# Altium schematic symbol library My_Schlib_6_28.SchLib: 171 symbols
Pins are listed as number, name and electrical type; pins without a type are passive.

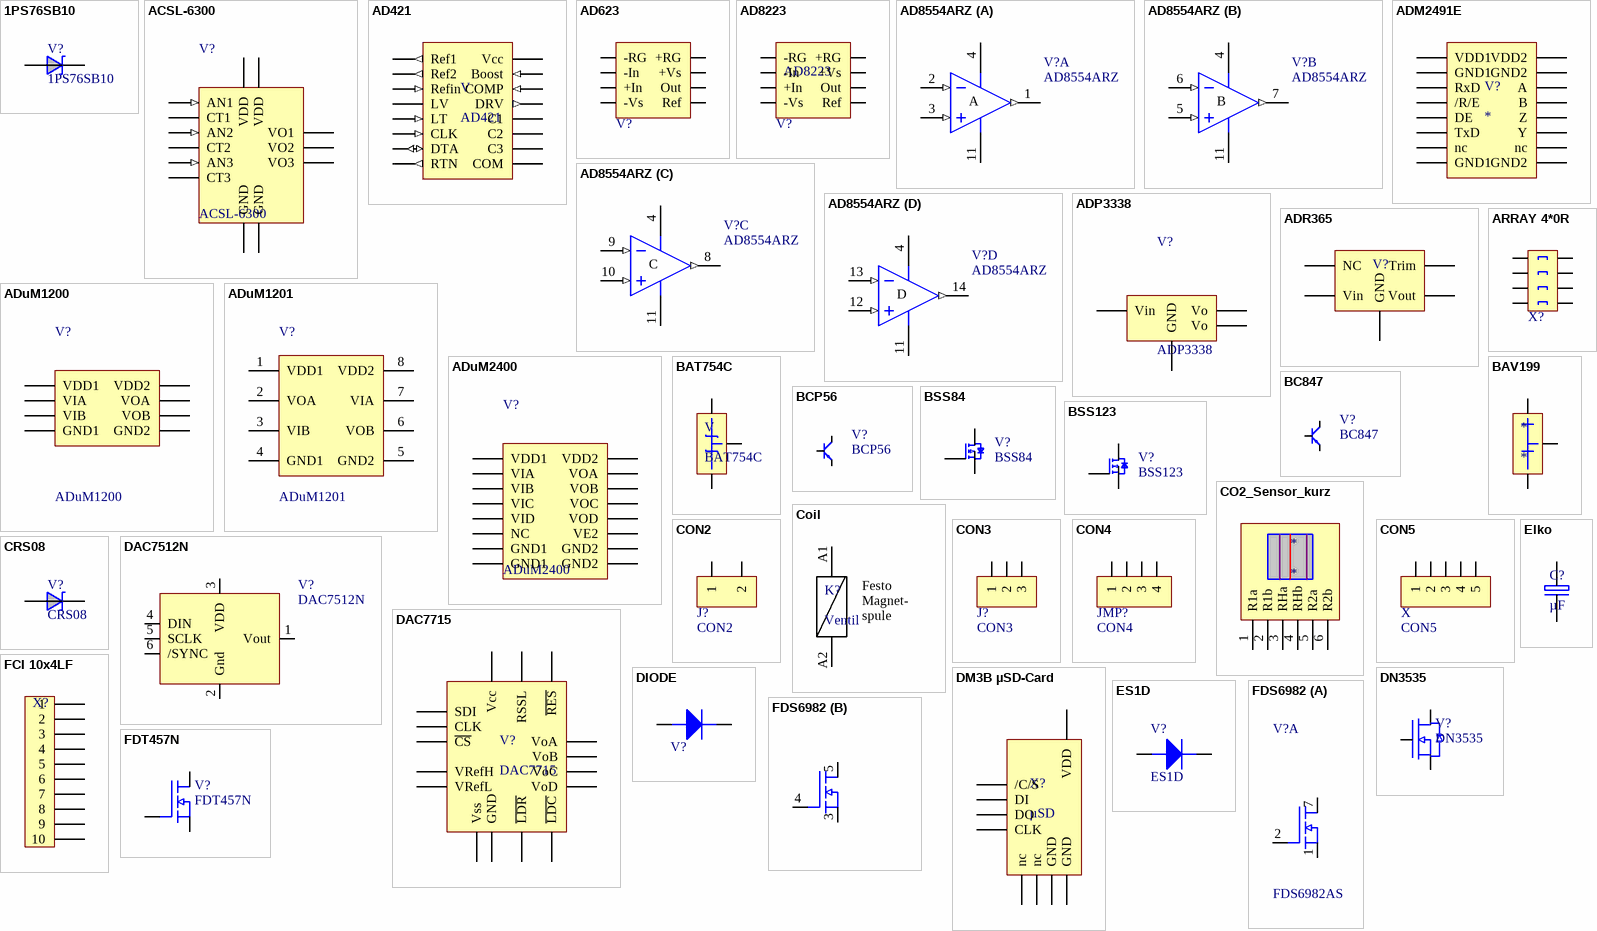
[diagram p0: symbols 1PS76SB10 to FDT457N]

## 1PS76SB10
designator V?
footprint SOD323
pins: 1, 2

## ACSL-6300
designator V?
footprint SOIC16n
pins: 1 AN1 (in), 2 CT1, 3 AN2 (in), 4 CT2, 5 AN3 (in), 6 CT3, 9 GND, 10 VDD (power), 12 VO3 (oc), 13 VO2 (oc), 14 VO1 (oc), 15 VDD (power), 16 GND

## AD421
designator V
footprint SOIC16w
pins: 1 Ref1 (out), 2 Ref2 (out), 3 Refin (in), 4 LV, 5 LT (in), 6 CLK (in), 7 DTA (io), 8 RTN (out), 9 COM, 10 C3, 11 C2, 12 C1, 13 DRV (out), 14 COMP (in), 15 Boost (in), 16 Vcc

## AD623
designator V?  (value not drawn)
footprint SO8
footprint MSOP8
pins: 1 -RG, 2 -In, 3 +In, 4 -Vs, 5 Ref, 6 Out, 7 +Vs, 8 +RG

## AD8223
designator V?
footprint SOIC127P600-8CM (SOIC, 8-Leads, Body 4.9x3.9mm, Pitch 1.27mm, IPC Low Density)
pins: 1 -RG, 2 -In, 3 +In, 4 -Vs, 5 Ref, 6 Out, 7 +Vs, 8 +RG

## AD8554ARZ
designator V?
footprint SOIC127P600-14AM (SOIC, 14-Leads, Body 8.6x3.9mm, Pitch 1.27mm, IPC Low Density)
part A pins: 1 OUT (out), 2 IN- (in), 3 IN+ (in), 4 V+ (power), 11 V- (power)
part B pins: 4 V+ (power), 5 IN+ (in), 6 IN- (in), 7 OUT (out), 11 V- (power)
part C pins: 4 V+ (power), 8 OUT (out), 9 IN- (in), 10 IN+ (in), 11 V- (power)
part D pins: 4 V+ (power), 11 V- (power), 12 IN+ (in), 13 IN- (in), 14 OUT (out)
part A text: A
part B text: B
part C text: C
part D text: D

## ADM2491E
designator V?
footprint SOIC127P1030-16AM (SOIC, 16-Leads, Body 10.3x7.5mm, Pitch 1.27mm, IPC Low Density)
pins: 1 VDD1, 2 GND1, 3 RxD, 4 /R/E, 5 DE, 6 TxD, 7 nc, 8 GND1, 9 GND2, 10 nc, 11 Y, 12 Z, 13 B, 14 A, 15 GND2, 16 VDD2

## ADP3338
designator V?
footprint SOT223
pins: 1 GND, 2 Vo, 3 Vin, 4 Vo

## ADR365
designator V?  (value not drawn)
footprint SOT23-5
pins: 1 NC, 2 GND, 3 Vin, 4 Vout, 5 Trim

## ADuM1200
designator V?
footprint SOIC127P600-8CM (SOIC, 8-Leads, Body 4.9x3.9mm, Pitch 1.27mm, IPC Low Density)
pins: 1 VDD1, 2 VIA, 3 VIB, 4 GND1, 5 GND2, 6 VOB (power), 7 VOA (power), 8 VDD2

## ADuM1201
designator V?
footprint SO8
pins: 1 VDD1, 2 VOA, 3 VIB, 4 GND1, 5 GND2, 6 VOB (power), 7 VIA (power), 8 VDD2

## ADuM2400
designator V?
footprint SOIC127P1030-16AM (SOIC, 16-Leads, Body 10.3x7.5mm, Pitch 1.27mm, IPC Low Density)
pins: 1 VDD1, 2 GND1, 3 VIA, 4 VIB, 5 VIC, 6 VID, 7 NC, 8 GND1, 9 GND2, 10 VE2, 11 VOD, 12 VOC, 13 VOB (power), 14 VOA (power), 15 GND2, 16 VDD2

## ARRAY 4*0R
designator X?, comment 4xR0  (value not drawn)
footprint Array 4x0R
pins: 1, 2, 3, 4, 5, 6, 7, 8

## BAT754C
designator V
footprint SOT23
pins: 1, 2, 3

## BAV199
designator *
footprint SOT23
pins: 1, 2, 3

## BC847
designator V?
footprint SOT23
pins: 1 B, 2 E, 3 C

## BCP56
designator V?
footprint SOT223
pins: 1 B, 2,4 C, 3 E

## BSS84
designator V?
footprint SOT23
pins: 1 G, 2 S, 3 D

## BSS123
designator V?
footprint SOT23
pins: 1 G, 2 S, 3 D

## CO2_Sensor_kurz
designator *
footprint Bond_CO2_kurz (CO2sensor 2,56*2,6mm)
pins: 1 R1a, 2 R1b, 3 RHa, 4 RHb, 5 R2a, 6 R2b

## Coil
designator K?, comment Ventil
pins: A1, A2
text: Festo / Magnet- / spule

## CON2
designator J?
footprint JMP2
pins: 1, 2

## CON3
designator J?
footprint JMP3
pins: 1, 2, 3

## CON4
designator JMP?
footprint JMP4
footprint CON4 1_27
footprint Samtec TMS-104-01-X-S
footprint ACH-4
pins: 1, 2, 3, 4

## CON5
designator X
footprint JMP5
footprint JST SM05B-SHLS-TF
pins: 1, 2, 3, 4, 5

## CRS08
designator V?
footprint CRS08
pins: 1 A, 2 K

## DAC7512N
designator V?
footprint SOT23-6
pins: 1 Vout, 2 Gnd (power), 3 VDD (power), 4 DIN, 5 SCLK, 6 /SYNC

## DAC7715
designator V?
footprint SOIC127P1030-16M (SOIC, 16-Leads, Body 10.3x7.5mm, Pitch 1.27mm, IPC Low Density)
pins: 1 Vcc, 2 VoD, 3 VoC, 4 VRefL, 5 VRefH, 6 VoB, 7 VoA, 8 Vss, 9 GND, 10 SDI, 11 CLK, 12 ~{CS}, 13 ~{LDC}, 14 ~{LDR}, 15 ~{RES}, 16 RSSL

## DIODE
designator V?
footprint SMA; pin to pad 1>2 2>1
footprint MELFD 5022
footprint SMB; pin to pad 1>2 2>1
footprint SOD123
footprint SMC
footprint SOD110; pin to pad 2>A
footprint 0603 Diode
pins: 1, 2

## DM3B µSD-Card
designator X?, comment µSD
footprint DM3B
pins: 1 nc, 2 /C/S, 3 DI, 4 VDD, 5 CLK, 6 GND, 7 DO, 8 nc, 9 GND

## DN3535
designator V?
footprint SOT89
pins: 1 G, 2 D, 3 S

## Elko
designator C?, comment µF
footprint SMA
footprint SMB
footprint SMC
pins: 1, 2

## ES1D
designator V?
footprint SMA
pins: 1, 2

## FCI 10x4LF
designator X?  (value not drawn)
footprint FCI 10C4LF
footprint FCI 10T4LF Edge
pins: 1, 2, 3, 4, 5, 6, 7, 8, 9, 10

## FDS6982
designator V?, comment FDS6982AS
footprint SO8 - Heatsink
part A pins: 1 S2, 2 G2, 7 D2
part B pins: 3 S1, 4 G1, 5 D1

## FDT457N
designator V?
footprint SOT223
pins: 1 G, 2 D, 3 S

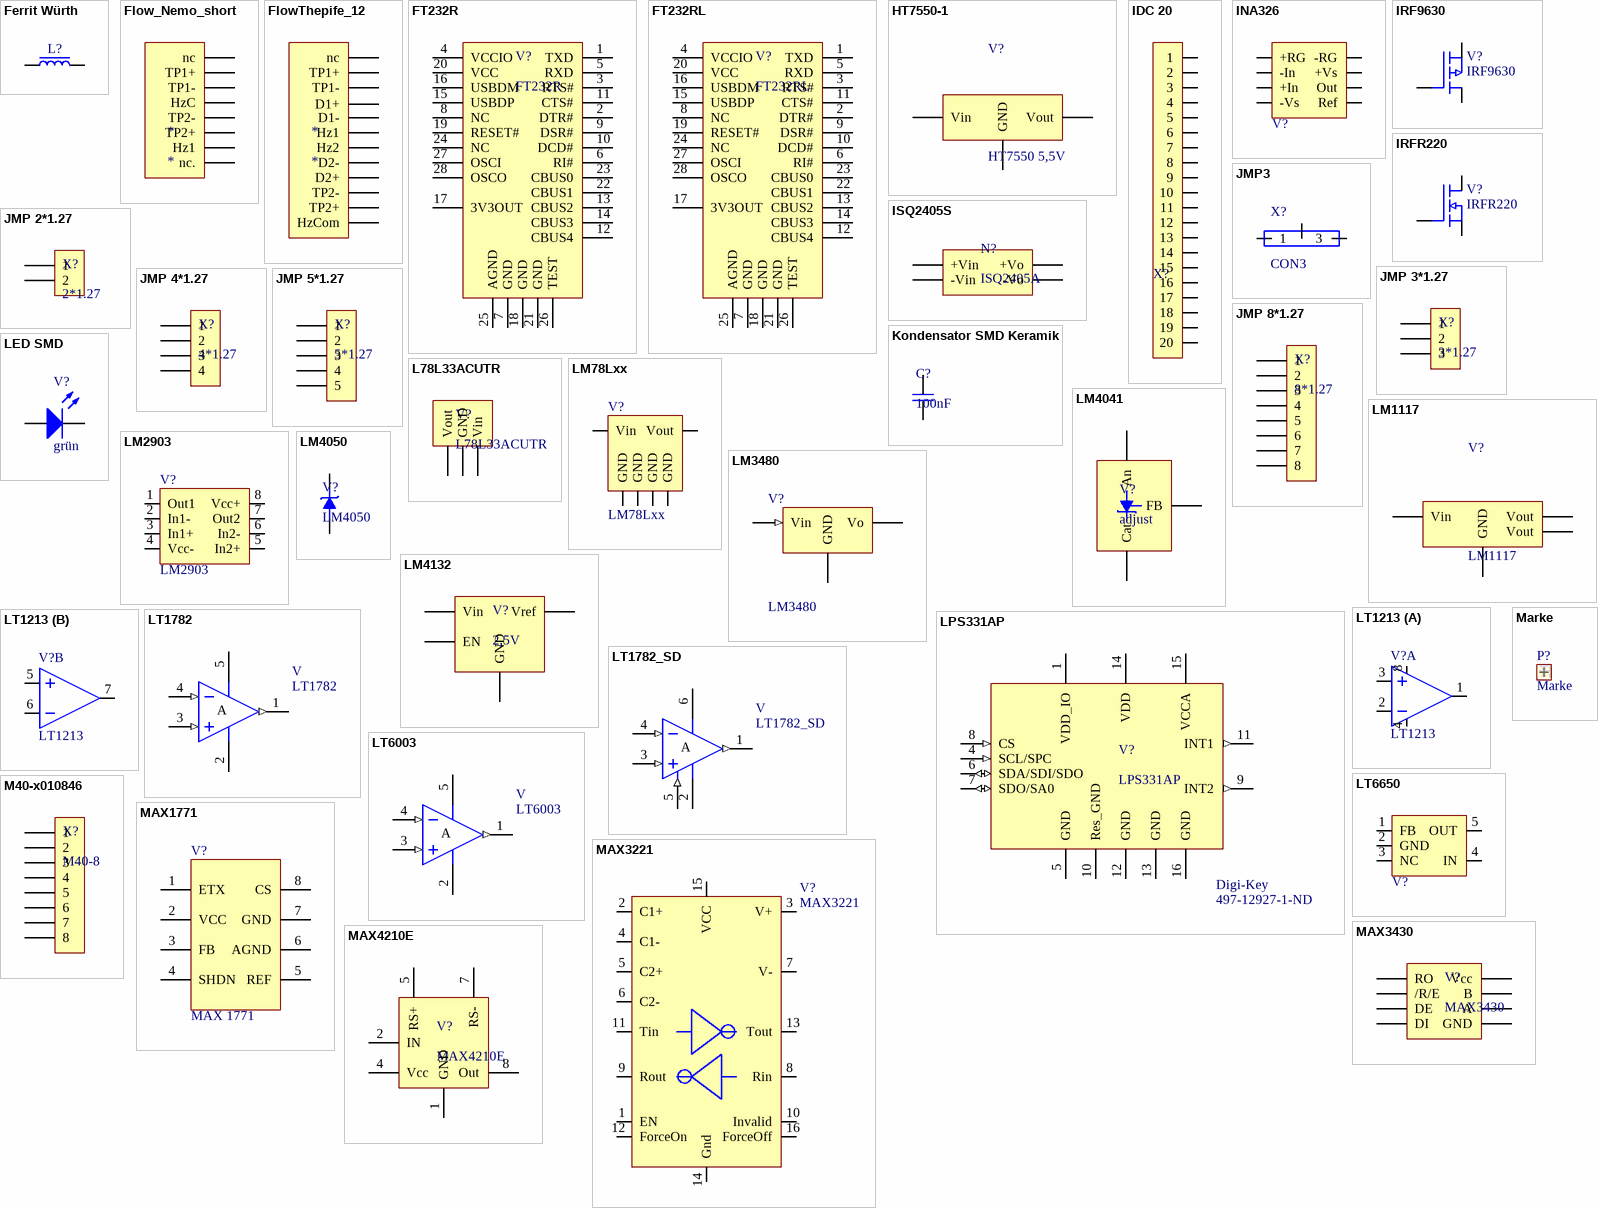
[diagram p1: symbols Ferrit Würth to MAX4210E]

## Ferrit Würth
designator L?, comment Ferrit  (value not drawn)
footprint 0603 (Chip Resistor; Body 1.6 x 0.9 mm (LxW typ))
pins: 1, 2

## Flow_Nemo_short
designator *
pins: 1 nc, 2 TP1+, 3 TP1-, 4 HzC, 5 TP2-, 6 TP2+, 7 Hz1, 8 nc.

## FlowThepife_12
designator *
footprint Bond_Flow_12p (Chip in PCB-Tasche buendig einkleben)
pins: 1 nc, 2 TP1+, 3 TP1-, 4 D1+, 5 D1-, 6 Hz1, 7 Hz2, 8 D2-, 9 D2+, 10 TP2-, 11 TP2+, 12 HzCom

## FT232R
designator V?
footprint SSOP28
pins: 1 TXD, 2 DTR#, 3 RTS#, 4 VCCIO, 5 RXD, 6 RI#, 7 GND, 8 NC, 9 DSR#, 10 DCD#, 11 CTS#, 12 CBUS4, 13 CBUS2, 14 CBUS3, 15 USBDP, 16 USBDM, 17 3V3OUT, 18 GND, 19 RESET#, 20 VCC, 21 GND, 22 CBUS1, 23 CBUS0, 24 NC, 25 AGND, 26 TEST, 27 OSCI, 28 OSCO

## FT232RL
designator V?
pins: 1 TXD, 2 DTR#, 3 RTS#, 4 VCCIO, 5 RXD, 6 RI#, 7 GND, 8 NC, 9 DSR#, 10 DCD#, 11 CTS#, 12 CBUS4, 13 CBUS2, 14 CBUS3, 15 USBDP, 16 USBDM, 17 3V3OUT, 18 GND, 19 RESET#, 20 VCC, 21 GND, 22 CBUS1, 23 CBUS0, 24 NC, 25 AGND, 26 TEST, 27 OSCI, 28 OSCO

## HT7550-1
designator V?, comment HT7550 5,5V
footprint SOT89
pins: 1 GND, 2 Vin, 3 Vout

## IDC 20
designator X?, comment IDC 2*10  (value not drawn)
footprint Flachband 20*2.54
pins: 1, 2, 3, 4, 5, 6, 7, 8, 9, 10, 11, 12, 13, 14, 15, 16, 17, 18, 19, 20

## INA326
designator V?  (value not drawn)
footprint SO8
footprint MSOP8
pins: 1 +RG, 2 -In, 3 +In, 4 -Vs, 5 Ref, 6 Out, 7 +Vs, 8 -RG

## IRF9630
designator V?
footprint TO220
pins: 1 G, 2 D, 3 S

## IRFR220
designator V?
footprint DPAK
pins: 1 G, 2 S, 3 D

## ISQ2405S
designator N?, comment ISQ2405A
footprint SID_6
pins: 1 -Vin, 9 +Vo, 10 -Vo, 16 +Vin

## JMP3
designator X?, comment CON3
footprint TO-220
pins: 1, 2, 3

## JMP 2*1.27
designator X?, comment 2*1.27
footprint JMP 2x1.27
pins: 1, 2

## JMP 3*1.27
designator X?, comment 3*1.27
footprint JMP 3x1.27
pins: 1, 2, 3

## JMP 4*1.27
designator X?, comment 4*1.27
footprint JMP 4x1.27
pins: 1, 2, 3, 4

## JMP 5*1.27
designator X?, comment 5*1.27
footprint JMP 5x1.27
pins: 1, 2, 3, 4, 5

## JMP 8*1.27
designator X?, comment 8*1.27
footprint JMP 8x1.27
pins: 1, 2, 3, 4, 5, 6, 7, 8

## Kondensator SMD Keramik
designator C?, comment 100nF
footprint C_0603 (Chip Resistor; Body 1.6 x 0.9 mm (LxW typ))
footprint C_1206 (Chip Resistor; Body 3.1 x 1.6 mm (LxW typ))
footprint C_0402 (Chip Resistor; Body 1 x 0.5 mm (LxW typ))
pins: 1, 2

## L78L33ACUTR
designator V?
footprint SOT89
pins: 1 Vout, 2 GND, 3 Vin

## LED SMD
designator V?, comment grün
footprint AvagoHLMP6500F0011
footprint 0603LED (Chip LED Body 1.6 x 0.9 mm (LxW typ))
footprint PLCC2
pins: 1, 2

## LM78Lxx
designator V?
footprint SO8
pins: 1 Vout, 2 GND, 3 GND, 6 GND, 7 GND, 8 Vin

## LM1117
designator V?
footprint SOT223
pins: 1 GND, 2 Vout, 3 Vin, 4 Vout

## LM2903
designator V?
footprint MSOP8
footprint SO8
pins: 1 Out1, 2 In1-, 3 In1+, 4 Vcc-, 5 In2+, 6 In2-, 7 Out2, 8 Vcc+

## LM3480
designator V?
footprint SOT23
pins: 1 Vo, 2 Vin (in), 3 GND

## LM4041
designator V?, comment adjust
footprint SOT23
pins: 1 FB, 2 Cat, 3 An

## LM4050
designator V?
footprint SOT23
pins: 1 An, 2 Cat, 3 NC hidden

## LM4132
designator V?, comment 2,5V
pins: 2 GND, 3 EN, 4 Vin, 5 Vref

## LPS331AP
designator V?  Supplier 1: Digi-Key  Supplier Part Number 1: 497-12927-1-ND
footprint HCLGA-16L (LPS331AP-Drucksensor, 16-Pins, Body 3,2x3,2mm (max), Pitch 0,50mm, IPC Medium Density)
pins: 1 VDD_IO (power) "high active Enable", 4 SCL/SPC (in) "high active Enable", 5 GND (power), 6 SDA/SDI/SDO (io) "high active Enable", 7 SDO/SA0 (io) "high active Enable", 8 CS (in) "high active Enable", 9 INT2 (out) "high active Enable", 10 Res_GND "high active Enable", 11 INT1 (out) "high active Enable", 12 GND (power) "high active Enable", 13 GND (power) "high active Enable", 14 VDD (power) "high active Enable", 15 VCCA (power) "high active Enable", 16 GND (power) "high active Enable"

## LT1213
designator V?
footprint SO8
part A pins: 1, 2, 3, 4, 8
part B pins: 5, 6, 7

## LT1782
designator V
footprint SOT23-5
pins: 1 OUT (out), 2 V- (power), 3 IN+ (in), 4 IN- (in), 5 V+ (power)
text: A

## LT1782_SD
designator V
footprint SOT23-6
pins: 1 OUT (out), 2 V- (power), 3 IN+ (in), 4 IN- (in), 5 Shdn (in), 6 V+ (power)
text: A

## LT6003
designator V
footprint SOT23-5
pins: 1 OUT (out), 2 V- (power), 3 IN+ (in), 4 IN- (in), 5 V+ (power)
text: A

## LT6650
designator V?  (value not drawn)
footprint SOT23-5
pins: 1 FB, 2 GND, 3 NC, 4 IN, 5 OUT

## M40-x010846
designator X?, comment M40-8
footprint M40-4010846
footprint M40-3010846
pins: 1, 2, 3, 4, 5, 6, 7, 8

## Marke
designator P?
footprint Marker

## MAX1771
designator V?, comment MAX 1771
footprint SO8
footprint DIP8
pins: 1 ETX, 2 VCC, 3 FB, 4 SHDN, 5 REF, 6 AGND (power), 7 GND (power), 8 CS

## MAX3221
designator V?
footprint SSOP16
pins: 1 EN, 2 C1+, 3 V+, 4 C1-, 5 C2+, 6 C2-, 7 V-, 8 Rin, 9 Rout, 10 Invalid, 11 Tin, 12 ForceOn, 13 Tout, 14 Gnd (power), 15 VCC, 16 ForceOff

## MAX3430
designator V?
footprint SOIC127P600-8CM (SOIC, 8-Leads, Body 4.9x3.9mm, Pitch 1.27mm, IPC Low Density)
pins: 1 RO, 2 /R/E, 3 DE, 4 DI, 5 GND, 6 A, 7 B, 8 Vcc

## MAX4210E
designator V?
footprint MSOP8
pins: 1 GND, 2 IN, 4 Vcc, 5 RS+, 7 RS-, 8 Out

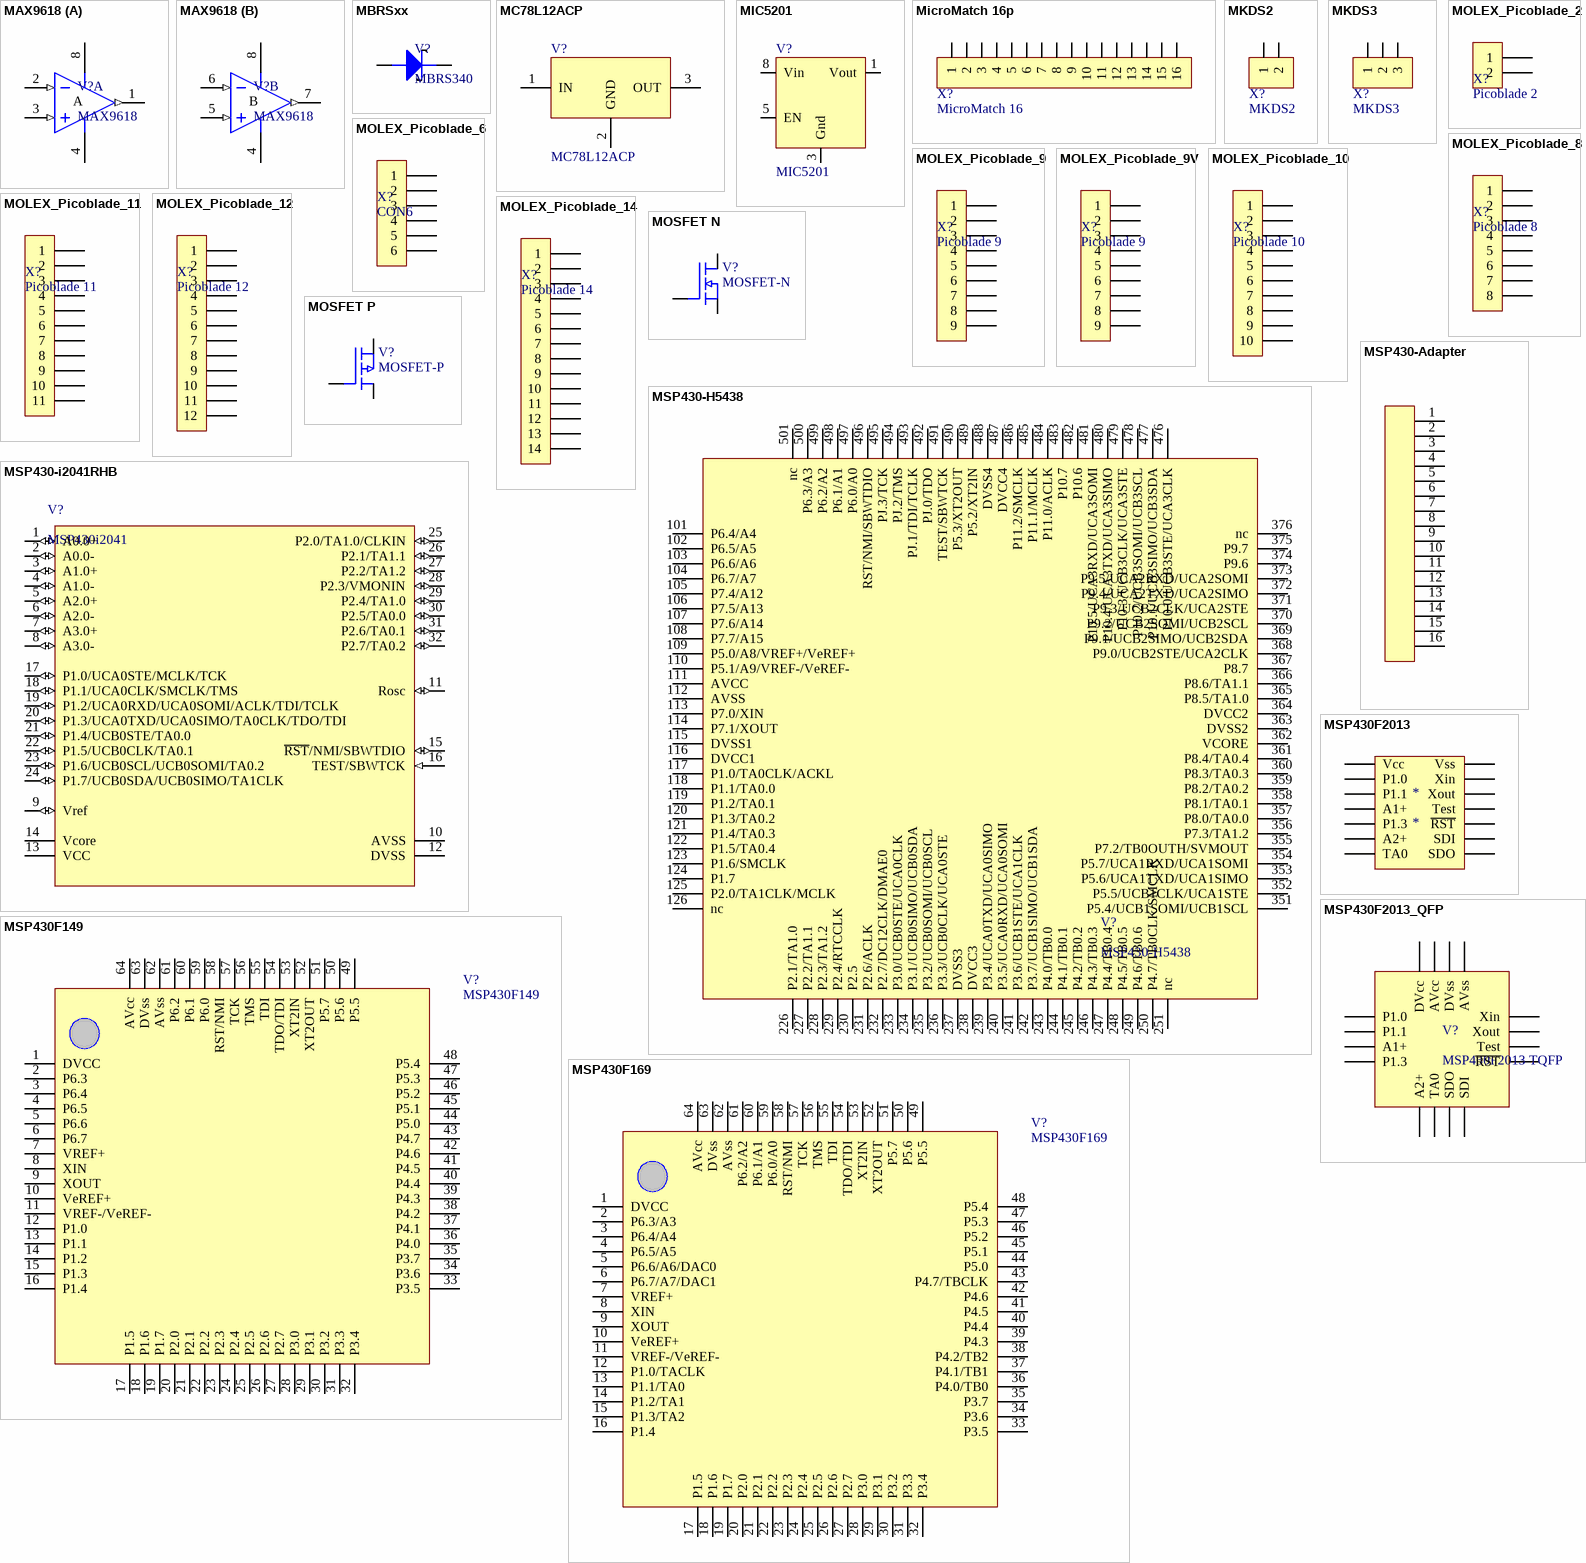
[diagram p2: symbols MAX9618 to MSP430F2013_QFP]

## MAX9618
designator V?
footprint SC70_8
part A pins: 1 OUT (out), 2 INA- (in), 3 INA+ (in), 4 GND (power), 8 V+ (power)
part B pins: 4 GND (power), 5 INB+ (in), 6 INB- (in), 7 OUTB (out), 8 V+ (power)
part A text: A
part B text: B

## MBRSxx
designator V?, comment MBRS340
footprint SMC
pins: 1 K, 2 A

## MC78L12ACP
designator V?
footprint TO92
pins: 1 IN (power), 2 GND (power), 3 OUT (power)

## MIC5201
designator V?
footprint SO8
pins: 1 Vout (power), 3 Gnd, 5 EN, 8 Vin

## MicroMatch 16p
designator X?, comment MicroMatch 16
footprint MicroMatch Female
pins: 1, 2, 3, 4, 5, 6, 7, 8, 9, 10, 11, 12, 13, 14, 15, 16

## MKDS2
designator X?
footprint MKDS2_5.08
footprint MKDS2_5.00
pins: 1, 2

## MKDS3
designator X?
footprint MKDS3_5.08
footprint MKDS3_5.00
pins: 1, 2, 3

## MOLEX_Picoblade_2
designator X?, comment Picoblade 2
footprint Picoblade 2*1,25
pins: 1, 2

## MOLEX_Picoblade_6
designator X?, comment CON6
footprint Picoblade 6*1,25
pins: 1, 2, 3, 4, 5, 6

## MOLEX_Picoblade_8
designator X?, comment Picoblade 8
footprint Picoblade 8*1,25
pins: 1, 2, 3, 4, 5, 6, 7, 8

## MOLEX_Picoblade_9
designator X?, comment Picoblade 9
footprint Picoblade 9*1,25
pins: 1, 2, 3, 4, 5, 6, 7, 8, 9

## MOLEX_Picoblade_9V
designator X?, comment Picoblade 9
footprint Picoblade 9*1,25V
pins: 1, 2, 3, 4, 5, 6, 7, 8, 9

## MOLEX_Picoblade_10
designator X?, comment Picoblade 10
footprint Picoblade 10*1,25
pins: 1, 2, 3, 4, 5, 6, 7, 8, 9, 10

## MOLEX_Picoblade_11
designator X?, comment Picoblade 11
footprint Picoblade 11*1,25
pins: 1, 2, 3, 4, 5, 6, 7, 8, 9, 10, 11

## MOLEX_Picoblade_12
designator X?, comment Picoblade 12
footprint Picoblade 12*1,25
pins: 1, 2, 3, 4, 5, 6, 7, 8, 9, 10, 11, 12

## MOLEX_Picoblade_14
designator X?, comment Picoblade 14
footprint Picoblade 14*1,25
pins: 1, 2, 3, 4, 5, 6, 7, 8, 9, 10, 11, 12, 13, 14

## MOSFET N
designator V?, comment MOSFET-N
footprint TO220
footprint SOT223
footprint DPACK
footprint SOT89
pins: 1 G, 2 D, 3 S

## MOSFET P
designator V?, comment MOSFET-P
footprint TO220
footprint SOT223
footprint DPACK
footprint SOT23
pins: 1 G, 2 S, 3 D

## MSP430-Adapter
designator V?
footprint QFP64 Adapter
pins: 1, 2, 3, 4, 5, 6, 7, 8, 9, 10, 11, 12, 13, 14, 15, 16

## MSP430-H5438
designator V?
footprint MSP430H5438
pins: 101 P6.4/A4, 102 P6.5/A5, 103 P6.6/A6, 104 P6.7/A7, 105 P7.4/A12, 106 P7.5/A13, 107 P7.6/A14, 108 P7.7/A15, 109 P5.0/A8/VREF+/VeREF+, 110 P5.1/A9/VREF-/VeREF-, 111 AVCC, 112 AVSS, 113 P7.0/XIN, 114 P7.1/XOUT, 115 DVSS1, 116 DVCC1, 117 P1.0/TA0CLK/ACKL, 118 P1.1/TA0.0, 119 P1.2/TA0.1, 120 P1.3/TA0.2, 121 P1.4/TA0.3, 122 P1.5/TA0.4, 123 P1.6/SMCLK, 124 P1.7, 125 P2.0/TA1CLK/MCLK, 126 nc, 226 P2.1/TA1.0, 227 P2.2/TA1.1, 228 P2.3/TA1.2, 229 P2.4/RTCCLK, 230 P2.5, 231 P2.6/ACLK, 232 P2.7/DC12CLK/DMAE0, 233 P3.0/UCB0STE/UCA0CLK, 234 P3.1/UCB0SIMO/UCB0SDA, 235 P3.2/UCB0SOMI/UCB0SCL, 236 P3.3/UCB0CLK/UCA0STE, 237 DVSS3, 238 DVCC3, 239 P3.4/UCA0TXD/UCA0SIMO, 240 P3.5/UCA0RXD/UCA0SOMI, 241 P3.6/UCB1STE/UCA1CLK, 242 P3.7/UCB1SIMO/UCB1SDA, 243 P4.0/TB0.0, 244 P4.1/TB0.1, 245 P4.2/TB0.2, 246 P4.3/TB0.3, 247 P4.4/TB0.4, 248 P4.5/TB0.5, 249 P4.6/TB0.6, 250 P4.7/TB0CLK/SMCLK, 251 nc, 351 P5.4/UCB1SOMI/UCB1SCL, 352 P5.5/UCB1CLK/UCA1STE, 353 P5.6/UCA1TXD/UCA1SIMO, 354 P5.7/UCA1RXD/UCA1SOMI, 355 P7.2/TB0OUTH/SVMOUT, 356 P7.3/TA1.2, 357 P8.0/TA0.0, 358 P8.1/TA0.1, 359 P8.2/TA0.2, 360 P8.3/TA0.3, 361 P8.4/TA0.4, 362 VCORE, 363 DVSS2, 364 DVCC2, 365 P8.5/TA1.0, 366 P8.6/TA1.1, 367 P8.7, 368 P9.0/UCB2STE/UCA2CLK, 369 P9.1/UCB2SIMO/UCB2SDA, 370 P9.2/UCB2SOMI/UCB2SCL, 371 P9.3/UCB2CLK/UCA2STE, 372 P9.4/UCA2TXD/UCA2SIMO, 373 P9.5/UCA2RXD/UCA2SOMI, 374 P9.6, 375 P9.7, 376 nc, 476 P10.0/UCB3STE/UCA3CLK, 477 P10.1/UCB3SIMO/UCB3SDA, 478 P10.2/UCB3SOMI/UCB3SCL, 479 P10.3/UCB3CLK/UCA3STE, 480 P10.4/UCA3TXD/UCA3SIMO, 481 P10.5/UCA3RXD/UCA3SOMI, 482 P10.6, 483 P10.7, 484 P11.0/ACLK, 485 P11.1/MCLK, 486 P11.2/SMCLK, 487 DVCC4, 488 DVSS4, 489 P5.2/XT2IN, 490 P5.3/XT2OUT, 491 TEST/SBWTCK, 492 PJ.0/TDO, 493 PJ.1/TDI/TCLK, 494 PJ.2/TMS, 495 PJ.3/TCK, 496 RST/NMI/SBWTDIO, 497 P6.0/A0, 498 P6.1/A1, 499 P6.2/A2, 500 P6.3/A3, 501 nc

## MSP430-i2041RHB
designator V?, comment MSP430i2041
i2041; Manufacturer: Texas Instruments; PartNumber: MSP430F2234TDA; ADC: 10-bit SAR; ADC Channels: 12; Brown Out Reset: Yes; Eco-Plan: Green (RoHS & no Sb/Br); Flash(KB): 8; Frequency(MHz): 16; GPIO: 32; SRAM(B): 512; SubFamily: 2 Series, Extended Temp; Timers - 16-bit: 2; USCI_A (UART/LIN/IrDA/SPI): 1; DatasheetVersion: SLAS504G; PackageVersion: 4040066/F; PackageReference: DA38; PackageDescription: 38-Pin Plastic Small-Outline Package, Body 6.10 x 12.50 mm, Pitch 0.65 mm; Supplier 1: Newark; Supplier Part Number 1: 47W6738; Supplier 2: Mouser; Supplier Part Number 2: 595-MSP430F2234IYFFT; USCI_B (I2C & SPI): 1; Watchdog: Yes; Mounting Technology: Surface Mount; Code_JEDEC: MO-153; ComponentLink1Description: Manufacturer URL; ComponentLink1URL: http://www.ti.com/; ComponentLink2Description: Datasheet; ComponentLink2URL: http://www.ti.com/general/docs/lit/getliterature.tsp?genericPartNumber=MSP430F2234&fileType=pdf; ComponentLink3Description: Package Specification; ComponentLink3URL: http://www.ti.com/lit/ml/mtss002e/mtss002e.pdf
footprint TI-RHB32-3450X3450TP_N (QFN, 32-Leads, Body 5x5mm, Pitch 0.5mm, Thermal Pad 3.45x3.45mm, IPC Medium Density)
pins: 1 A0.0+ (io), 2 A0.0- (io), 3 A1.0+ (io), 4 A1.0- (io), 5 A2.0+ (io), 6 A2.0- (io), 7 A3.0+ (io), 8 A3.0- (io), 9 Vref (io), 10 AVSS (power) "Analog ground reference", 11 Rosc (io), 12 DVSS (power) "Digital ground reference", 13 VCC (power) "Digital supply voltage", 14 Vcore (power) "Analog supply voltage", 15 ~{RST}/NMI/SBWTDIO (io), 16 TEST/SBWTCK (in), 17 P1.0/UCA0STE/MCLK/TCK (io), 18 P1.1/UCA0CLK/SMCLK/TMS (io), 19 P1.2/UCA0RXD/UCA0SOMI/ACLK/TDI/TCLK (io), 20 P1.3/UCA0TXD/UCA0SIMO/TA0CLK/TDO/TDI (io), 21 P1.4/UCB0STE/TA0.0 (io), 22 P1.5/UCB0CLK/TA0.1 (io), 23 P1.6/UCB0SCL/UCB0SOMI/TA0.2 (io), 24 P1.7/UCB0SDA/UCB0SIMO/TA1CLK (io), 25 P2.0/TA1.0/CLKIN (io), 26 P2.1/TA1.1 (io), 27 P2.2/TA1.2 (io), 28 P2.3/VMONIN (io), 29 P2.4/TA1.0 (io), 30 P2.5/TA0.0 (io), 31 P2.6/TA0.1 (io), 32 P2.7/TA0.2 (io)

## MSP430F149
designator V?
footprint LQFP64_N (64-Pin Thin Quad Flat Pack 0.8 mm Pitch, IPC Medium Density)
pins: 1 DVCC, 2 P6.3, 3 P6.4, 4 P6.5, 5 P6.6, 6 P6.7, 7 VREF+, 8 XIN, 9 XOUT, 10 VeREF+, 11 VREF-/VeREF-, 12 P1.0, 13 P1.1, 14 P1.2, 15 P1.3, 16 P1.4, 17 P1.5, 18 P1.6, 19 P1.7, 20 P2.0, 21 P2.1, 22 P2.2, 23 P2.3, 24 P2.4, 25 P2.5, 26 P2.6, 27 P2.7, 28 P3.0, 29 P3.1, 30 P3.2, 31 P3.3, 32 P3.4, 33 P3.5, 34 P3.6, 35 P3.7, 36 P4.0, 37 P4.1, 38 P4.2, 39 P4.3, 40 P4.4, 41 P4.5, 42 P4.6, 43 P4.7, 44 P5.0, 45 P5.1, 46 P5.2, 47 P5.3, 48 P5.4, 49 P5.5, 50 P5.6, 51 P5.7, 52 XT2OUT, 53 XT2IN, 54 TDO/TDI, 55 TDI, 56 TMS, 57 TCK, 58 RST/NMI, 59 P6.0, 60 P6.1, 61 P6.2, 62 AVss, 63 DVss, 64 AVcc

## MSP430F169
designator V?
footprint LQFP64_N (64-Pin Thin Quad Flat Pack 0.8 mm Pitch, IPC Medium Density)
pins: 1 DVCC, 2 P6.3/A3, 3 P6.4/A4, 4 P6.5/A5, 5 P6.6/A6/DAC0, 6 P6.7/A7/DAC1, 7 VREF+, 8 XIN, 9 XOUT, 10 VeREF+, 11 VREF-/VeREF-, 12 P1.0/TACLK, 13 P1.1/TA0, 14 P1.2/TA1, 15 P1.3/TA2, 16 P1.4, 17 P1.5, 18 P1.6, 19 P1.7, 20 P2.0, 21 P2.1, 22 P2.2, 23 P2.3, 24 P2.4, 25 P2.5, 26 P2.6, 27 P2.7, 28 P3.0, 29 P3.1, 30 P3.2, 31 P3.3, 32 P3.4, 33 P3.5, 34 P3.6, 35 P3.7, 36 P4.0/TB0, 37 P4.1/TB1, 38 P4.2/TB2, 39 P4.3, 40 P4.4, 41 P4.5, 42 P4.6, 43 P4.7/TBCLK, 44 P5.0, 45 P5.1, 46 P5.2, 47 P5.3, 48 P5.4, 49 P5.5, 50 P5.6, 51 P5.7, 52 XT2OUT, 53 XT2IN, 54 TDO/TDI, 55 TDI, 56 TMS, 57 TCK, 58 RST/NMI, 59 P6.0/A0, 60 P6.1/A1, 61 P6.2/A2, 62 AVss, 63 DVss, 64 AVcc

## MSP430F2013
designator *
footprint SOP65P640-14N (SOP, 14-Leads, Body 5x4.4mm, Pitch 0.65mm, IPC Medium Density)
3D model Model Name (Model Description)
pins: 1 Vcc, 2 P1.0, 3 P1.1, 4 A1+, 5 P1.3, 6 A2+, 7 TA0, 8 SDO, 9 SDI, 10 ~{RST}, 11 Test, 12 Xout, 13 Xin, 14 Vss

## MSP430F2013_QFP
designator V?, comment MSP430F2013 TQFP
footprint QFN_Sq65P_16
pins: 1 P1.0, 2 P1.1, 3 A1+, 4 P1.3, 5 A2+, 6 TA0, 7 SDO, 8 SDI, 9 ~{RST}, 10 Test, 11 Xout, 12 Xin, 13 AVss, 14 DVss, 15 AVcc, 16 DVcc

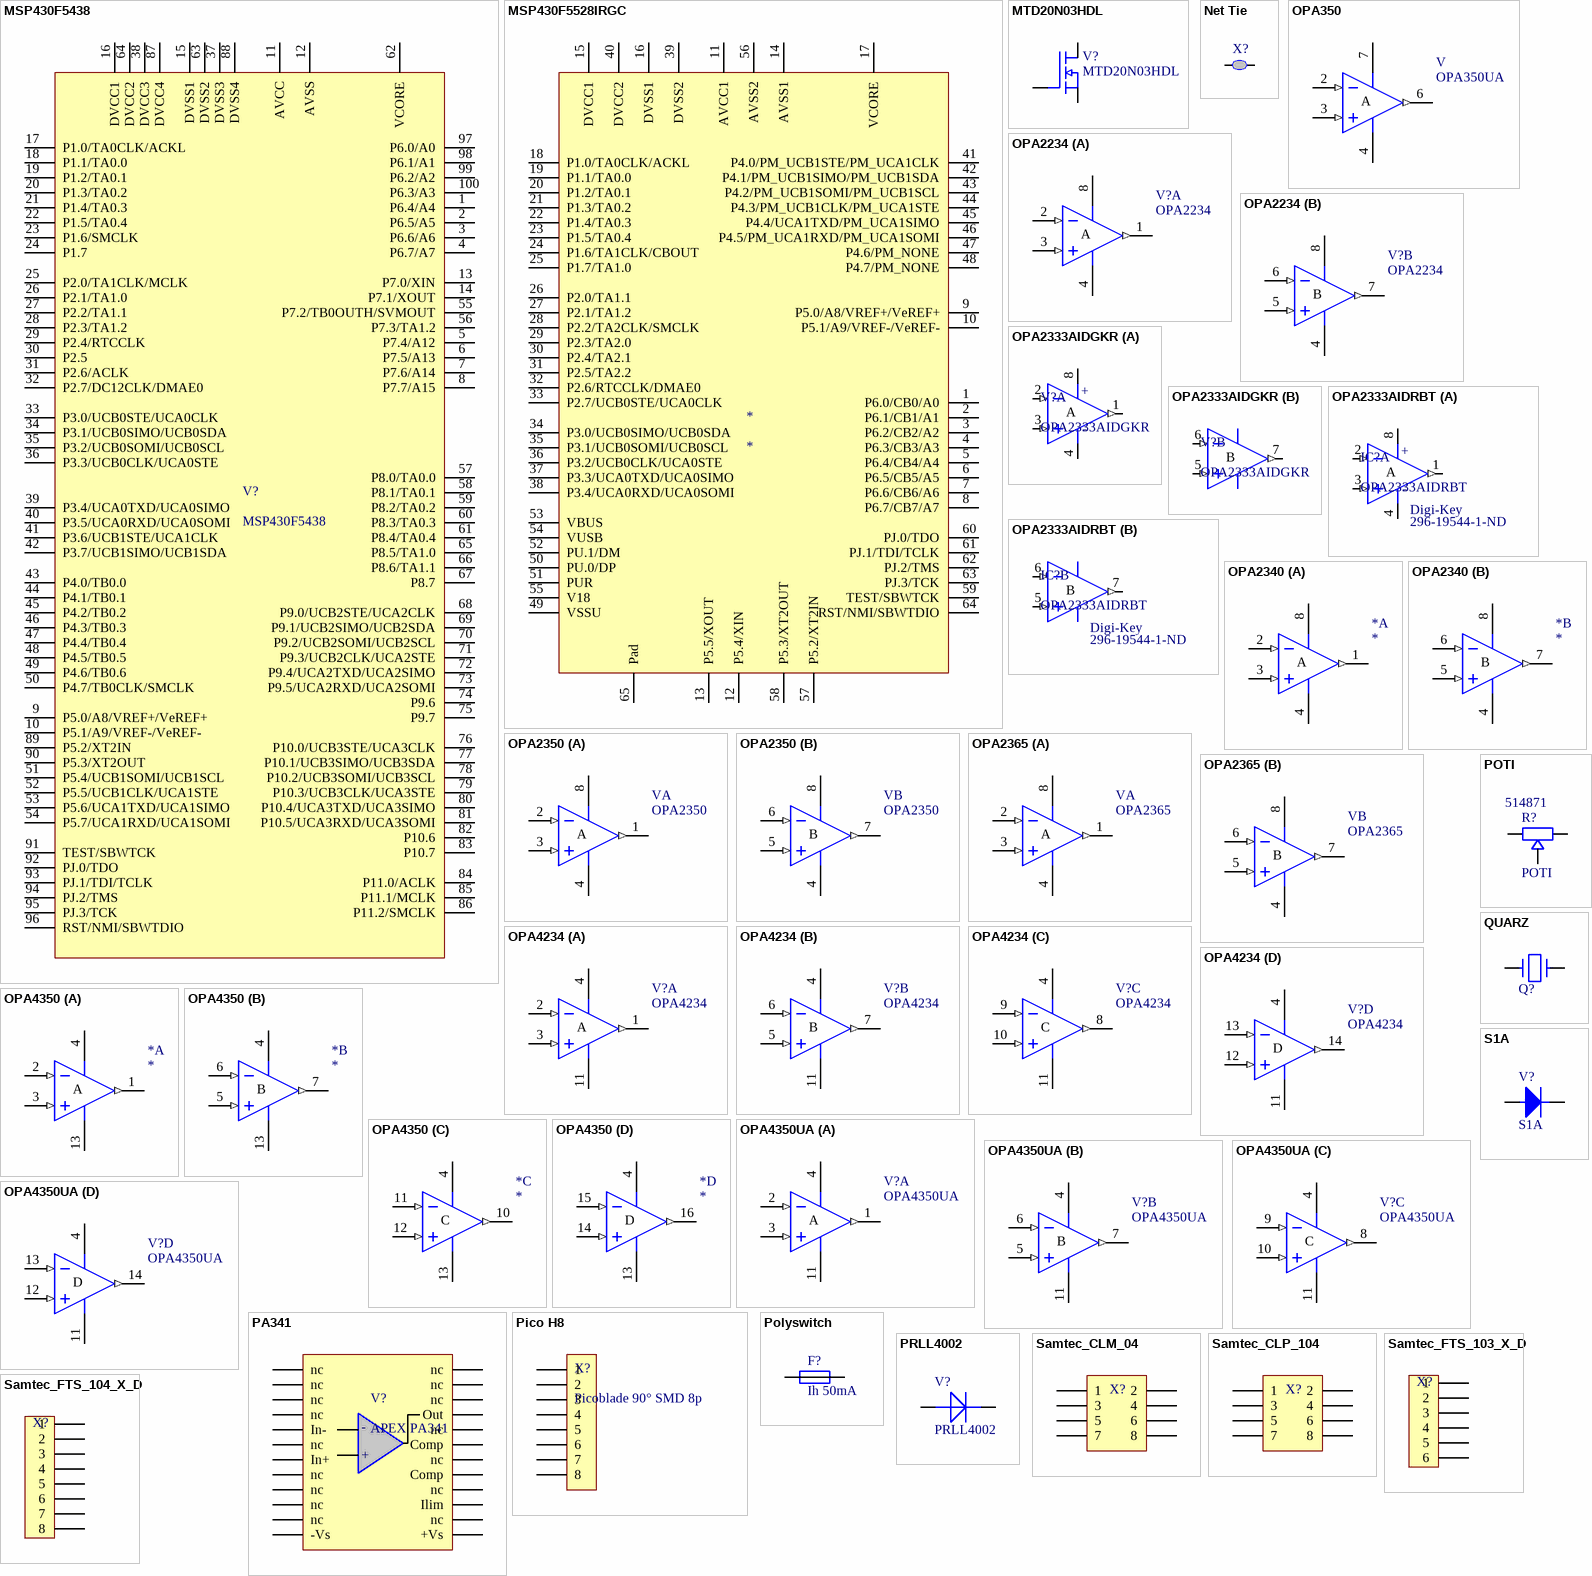
[diagram p3: symbols MSP430F5438 to Samtec_FTS_104_X_D]

## MSP430F5438
designator V?
footprint LQFP100
pins: 1 P6.4/A4, 2 P6.5/A5, 3 P6.6/A6, 4 P6.7/A7, 5 P7.4/A12, 6 P7.5/A13, 7 P7.6/A14, 8 P7.7/A15, 9 P5.0/A8/VREF+/VeREF+, 10 P5.1/A9/VREF-/VeREF-, 11 AVCC, 12 AVSS, 13 P7.0/XIN, 14 P7.1/XOUT, 15 DVSS1, 16 DVCC1, 17 P1.0/TA0CLK/ACKL, 18 P1.1/TA0.0, 19 P1.2/TA0.1, 20 P1.3/TA0.2, 21 P1.4/TA0.3, 22 P1.5/TA0.4, 23 P1.6/SMCLK, 24 P1.7, 25 P2.0/TA1CLK/MCLK, 26 P2.1/TA1.0, 27 P2.2/TA1.1, 28 P2.3/TA1.2, 29 P2.4/RTCCLK, 30 P2.5, 31 P2.6/ACLK, 32 P2.7/DC12CLK/DMAE0, 33 P3.0/UCB0STE/UCA0CLK, 34 P3.1/UCB0SIMO/UCB0SDA, 35 P3.2/UCB0SOMI/UCB0SCL, 36 P3.3/UCB0CLK/UCA0STE, 37 DVSS3, 38 DVCC3, 39 P3.4/UCA0TXD/UCA0SIMO, 40 P3.5/UCA0RXD/UCA0SOMI, 41 P3.6/UCB1STE/UCA1CLK, 42 P3.7/UCB1SIMO/UCB1SDA, 43 P4.0/TB0.0, 44 P4.1/TB0.1, 45 P4.2/TB0.2, 46 P4.3/TB0.3, 47 P4.4/TB0.4, 48 P4.5/TB0.5, 49 P4.6/TB0.6, 50 P4.7/TB0CLK/SMCLK, 51 P5.4/UCB1SOMI/UCB1SCL, 52 P5.5/UCB1CLK/UCA1STE, 53 P5.6/UCA1TXD/UCA1SIMO, 54 P5.7/UCA1RXD/UCA1SOMI, 55 P7.2/TB0OUTH/SVMOUT, 56 P7.3/TA1.2, 57 P8.0/TA0.0, 58 P8.1/TA0.1, 59 P8.2/TA0.2, 60 P8.3/TA0.3, 61 P8.4/TA0.4, 62 VCORE, 63 DVSS2, 64 DVCC2, 65 P8.5/TA1.0, 66 P8.6/TA1.1, 67 P8.7, 68 P9.0/UCB2STE/UCA2CLK, 69 P9.1/UCB2SIMO/UCB2SDA, 70 P9.2/UCB2SOMI/UCB2SCL, 71 P9.3/UCB2CLK/UCA2STE, 72 P9.4/UCA2TXD/UCA2SIMO, 73 P9.5/UCA2RXD/UCA2SOMI, 74 P9.6, 75 P9.7, 76 P10.0/UCB3STE/UCA3CLK, 77 P10.1/UCB3SIMO/UCB3SDA, 78 P10.2/UCB3SOMI/UCB3SCL, 79 P10.3/UCB3CLK/UCA3STE, 80 P10.4/UCA3TXD/UCA3SIMO, 81 P10.5/UCA3RXD/UCA3SOMI, 82 P10.6, 83 P10.7, 84 P11.0/ACLK, 85 P11.1/MCLK, 86 P11.2/SMCLK, 87 DVCC4, 88 DVSS4, 89 P5.2/XT2IN, 90 P5.3/XT2OUT, 91 TEST/SBWTCK, 92 PJ.0/TDO, 93 PJ.1/TDI/TCLK, 94 PJ.2/TMS, 95 PJ.3/TCK, 96 RST/NMI/SBWTDIO, 97 P6.0/A0, 98 P6.1/A1, 99 P6.2/A2, 100 P6.3/A3

## MSP430F5528IRGC
designator *
footprint TI.RGC(S-PVQFN-N64)
pins: 1 P6.0/CB0/A0, 2 P6.1/CB1/A1, 3 P6.2/CB2/A2, 4 P6.3/CB3/A3, 5 P6.4/CB4/A4, 6 P6.5/CB5/A5, 7 P6.6/CB6/A6, 8 P6.7/CB7/A7, 9 P5.0/A8/VREF+/VeREF+, 10 P5.1/A9/VREF-/VeREF-, 11 AVCC1, 12 P5.4/XIN, 13 P5.5/XOUT, 14 AVSS1, 15 DVCC1, 16 DVSS1, 17 VCORE, 18 P1.0/TA0CLK/ACKL, 19 P1.1/TA0.0, 20 P1.2/TA0.1, 21 P1.3/TA0.2, 22 P1.4/TA0.3, 23 P1.5/TA0.4, 24 P1.6/TA1CLK/CBOUT, 25 P1.7/TA1.0, 26 P2.0/TA1.1, 27 P2.1/TA1.2, 28 P2.2/TA2CLK/SMCLK, 29 P2.3/TA2.0, 30 P2.4/TA2.1, 31 P2.5/TA2.2, 32 P2.6/RTCCLK/DMAE0, 33 P2.7/UCB0STE/UCA0CLK, 34 P3.0/UCB0SIMO/UCB0SDA, 35 P3.1/UCB0SOMI/UCB0SCL, 36 P3.2/UCB0CLK/UCA0STE, 37 P3.3/UCA0TXD/UCA0SIMO, 38 P3.4/UCA0RXD/UCA0SOMI, 39 DVSS2, 40 DVCC2, 41 P4.0/PM_UCB1STE/PM_UCA1CLK, 42 P4.1/PM_UCB1SIMO/PM_UCB1SDA, 43 P4.2/PM_UCB1SOMI/PM_UCB1SCL, 44 P4.3/PM_UCB1CLK/PM_UCA1STE, 45 P4.4/UCA1TXD/PM_UCA1SIMO, 46 P4.5/PM_UCA1RXD/PM_UCA1SOMI, 47 P4.6/PM_NONE, 48 P4.7/PM_NONE, 49 VSSU, 50 PU.0/DP, 51 PUR, 52 PU.1/DM, 53 VBUS, 54 VUSB, 55 V18, 56 AVSS2, 57 P5.2/XT2IN, 58 P5.3/XT2OUT, 59 TEST/SBWTCK, 60 PJ.0/TDO, 61 PJ.1/TDI/TCLK, 62 PJ.2/TMS, 63 PJ.3/TCK, 64 RST/NMI/SBWTDIO, 65 Pad

## MTD20N03HDL
designator V?
footprint DPAK
pins: 1 G, 2 S, 3 D

## Net Tie
designator X?  (value not drawn)  (net tie, no BOM)
Net Tie; 09_Ersteller: HSG Jürgen Merz; 02_Herstellerbezeichnung: ka; 10_Erstell_Datum: 28.09.2009
footprint NetTie (Kleiner Net-Tie um netze zu verbinden)
pins: 1, 2

## OPA350
designator V, comment OPA350UA
footprint MSOP8
pins: 2 IN- (in), 3 IN+ (in), 4 V- (power), 6 OUT (out), 7 V+ (power)
text: A

## OPA2234
designator V?
footprint SO8
part A pins: 1 OUT (out), 2 IN- (in), 3 IN+ (in), 4 V- (power), 8 V+ (power)
part B pins: 4 V- (power), 5 IN+ (in), 6 IN- (in), 7 OUT (out), 8 V+ (power)
part A text: A
part B text: B

## OPA2333AIDGKR
designator V?
Dual micro Power OP; 01_Hersteller: Texas Instruments; 05_Datasheet_Link_Lokal: O:\Altium Designer\Datasheets\Texas Instruments\OPA333; 09_Ersteller: HSG Jürgen Merz; 07_Lieferant: Farnell; 08_Lieferanten_Nummer: 2075427; 02_Herstellerbezeichnung: ka; 03_Hersteller_Link: http://www.ti.com; 04_Datasheet_Link: Datasheet; 06 Footprint_Link_Lokal: O:\Altium Designer\Datasheets\Texas Instruments\OPA333; 10_Erstell_Datum: 12.10.2010; Supplier 1: Digi-Key; Supplier Part Number 1: 296-22883-1-ND
footprint MSOP8
part A pins: 1 OUT1 (out), 2 IN1- (in), 3 IN1+ (in), 4 V- (power), 8 V+ (power)
part B pins: 5 IN1+ (in), 6 IN1- (in), 7 OUT1 (out)
part A text: +; A; -
part B text: B

## OPA2333AIDRBT
designator IC?  Supplier 1: Digi-Key  Supplier Part Number 1: 296-19544-1-ND
Dual micro Power OP; 01_Hersteller: Texas Instruments; 05_Datasheet_Link_Lokal: O:\Altium Designer\Datasheets\Texas Instruments\OPA333; 09_Ersteller: HSG Jürgen Merz; 07_Lieferant: Farnell; 08_Lieferanten_Nummer: 1408162; 02_Herstellerbezeichnung: ka; 03_Hersteller_Link: http://www.ti.com; 04_Datasheet_Link: Datasheet; 06 Footprint_Link_Lokal: O:\Altium Designer\Datasheets\Texas Instruments\OPA333; 10_Erstell_Datum: 12.10.2010
footprint TI DRB (S-PVON-N8) (TI DRB; 8 Pin; OPA2333)
part A pins: 1 OUT1 (out), 2 IN1- (in), 3 IN1+ (in), 4 V- (power), 8 V+ (power)
part B pins: 5 IN1+ (in), 6 IN1- (in), 7 OUT1 (out)
part A text: +; A; -
part B text: B

## OPA2340
designator *
footprint SO8
part A pins: 1 OUT (out), 2 IN- (in), 3 IN+ (in), 4 V- (power), 8 V+ (power)
part B pins: 4 V- (power), 5 IN+ (in), 6 IN- (in), 7 OUT (out), 8 V+ (power)
part A text: A
part B text: B

## OPA2350
designator V
footprint SOIC127P600-8BM (SOIC, 8-Leads, Body 4.9x3.9mm, Pitch 1.27mm, IPC Low Density)
part A pins: 1 OUT (out), 2 IN- (in), 3 IN+ (in), 4 V- (power), 8 V+ (power)
part B pins: 4 V- (power), 5 IN+ (in), 6 IN- (in), 7 OUT (out), 8 V+ (power)
part A text: A
part B text: B

## OPA2365
designator V
footprint SO8
part A pins: 1 OUT (out), 2 IN- (in), 3 IN+ (in), 4 V- (power), 8 V+ (power)
part B pins: 4 V- (power), 5 IN+ (in), 6 IN- (in), 7 OUT (out), 8 V+ (power)
part A text: A
part B text: B

## OPA4234
designator V?
footprint SOIC127P600-14M (SOIC, 14-Leads, Body 8.7x3.9mm, Pitch 1.27mm, IPC Low Density)
part A pins: 1 OUT (out), 2 IN- (in), 3 IN+ (in), 4 V+ (power), 11 V- (power)
part B pins: 4 V+ (power), 5 IN+ (in), 6 IN- (in), 7 OUT (out), 11 V- (power)
part C pins: 4 V+ (power), 8 OUT (out), 9 IN- (in), 10 IN+ (in), 11 V- (power)
part D pins: 4 V+ (power), 11 V- (power), 12 IN+ (in), 13 IN- (in), 14 OUT (out)
part A text: A
part B text: B
part C text: C
part D text: D

## OPA4350
designator *
footprint SO16
part A pins: 1 OUT (out), 2 IN- (in), 3 IN+ (in), 4 V+ (power), 13 V- (power)
part B pins: 4 V+ (power), 5 IN+ (in), 6 IN- (in), 7 OUT (out), 13 V- (power)
part C pins: 4 V+ (power), 10 OUT (out), 11 IN- (in), 12 IN+ (in), 13 V- (power)
part D pins: 4 V+ (power), 13 V- (power), 14 IN+ (in), 15 IN- (in), 16 OUT (out)
part A text: A
part B text: B
part C text: C
part D text: D

## OPA4350UA
designator V?
footprint SOIC127P600-14M (SOIC, 14-Leads, Body 8.7x3.9mm, Pitch 1.27mm, IPC Low Density)
part A pins: 1 OUT (out), 2 IN- (in), 3 IN+ (in), 4 V+ (power), 11 V- (power)
part B pins: 4 V+ (power), 5 IN+ (in), 6 IN- (in), 7 OUT (out), 11 V- (power)
part C pins: 4 V+ (power), 8 OUT (out), 9 IN- (in), 10 IN+ (in), 11 V- (power)
part D pins: 4 V+ (power), 11 V- (power), 12 IN+ (in), 13 IN- (in), 14 OUT (out)
part A text: A
part B text: B
part C text: C
part D text: D

## PA341
designator V?, comment APEX PA341
footprint PSOP24
pins: 1 nc, 2 nc, 3 nc, 4 nc, 5 In-, 6 nc, 7 In+, 8 nc, 9 nc, 10 nc, 11 nc, 12 -Vs, 13 +Vs, 14 nc, 15 Ilim, 16 nc, 17 Comp, 18 nc, 19 Comp, 20 nc, 21 Out, 22 nc, 23 nc, 24 nc
text: -; +

## Pico H8
designator X?, comment Picoblade 90° SMD 8p
footprint Picoblade 8*1,25
pins: 1, 2, 3, 4, 5, 6, 7, 8

## Polyswitch
designator F?, comment Ih 50mA
footprint 1206 (Chip Resistor; Body 3.1 x 1.6 mm (LxW typ))
pins: 1, 2

## POTI
designator R?  Supplier Part Number 1: 514871
Supplier 1: Farnell
footprint Poti 250 mW
pins: 1, 2, 3

## PRLL4002
designator V?
footprint SOD87
pins: A, K

## QUARZ
designator Q?  (value not drawn)
footprint Quarz 3_2 x 2_5
footprint Quarz 2_5 x 2_0 (CX2520SB Kyocera)
footprint Quarz 5 x 3.2
footprint Quarz 2_0 x 1_6 (Q22FA1280xxxx00)
pins: 1, 3

## S1A
designator V?
footprint SMA
footprint P2-F2-B
pins: 1, 2

## Samtec_CLM_04
designator X?  (value not drawn)
footprint Samtec CLM-104-02-L-D
pins: 1, 2, 3, 4, 5, 6, 7, 8

## Samtec_CLP_104
designator X?  (value not drawn)
footprint Samtec CLP-104-0x-L-D
pins: 1, 2, 3, 4, 5, 6, 7, 8

## Samtec_FTS_103_X_D
designator X?, comment Samtec_FTS-103-X-D  (value not drawn)
footprint Samtec FTS-103-01-L-D
pins: 1, 2, 3, 4, 5, 6

## Samtec_FTS_104_X_D
designator X?, comment Samtec_FTS-104-X-D  (value not drawn)
footprint Samtec FTS-104-L-D
pins: 1, 2, 3, 4, 5, 6, 7, 8

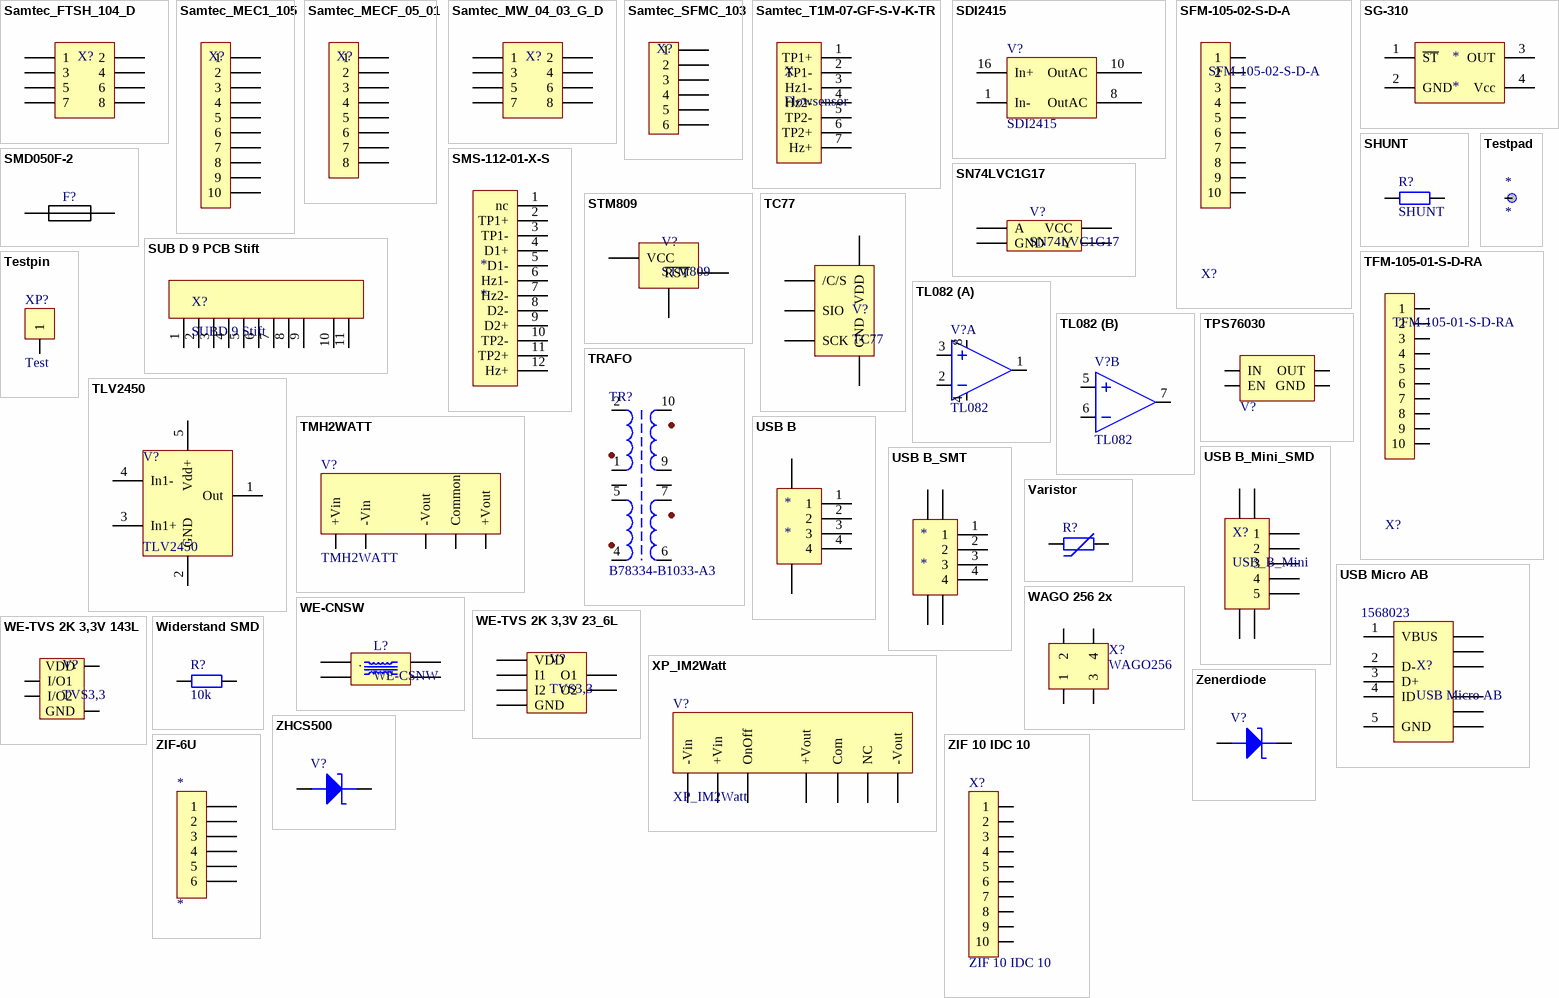
[diagram p4: symbols Samtec_FTSH_104_D to ZIF-6U]

## Samtec_FTSH_104_D
designator X?  (value not drawn)
footprint Samtec FTSH-104-0X-L-D top
footprint Samtec FTSH-104-0X-L-D bot
pins: 1, 2, 3, 4, 5, 6, 7, 8

## Samtec_MEC1_105
designator X?  (value not drawn)
footprint Samtec MEC1-105-02-L-D
pins: 1, 2, 3, 4, 5, 6, 7, 8, 9, 10

## Samtec_MECF_05_01
designator X?  (value not drawn)
footprint Samtec_MECF-05-01-X-DV
pins: 1, 2, 3, 4, 5, 6, 7, 8

## Samtec_MW_04_03_G_D
designator X?  (value not drawn)
footprint Samtec_MW_04_03_G_D
pins: 1, 2, 3, 4, 5, 6, 7, 8

## Samtec_SFMC_103
designator X?, comment Samtec_SFMC-103-L3-X-D  (value not drawn)
footprint Samtec SFMC-103-L3-X-D
pins: 1, 2, 3, 4, 5, 6

## Samtec_T1M-07-GF-S-V-K-TR
designator X, comment Flowsensor
footprint Samtec T1M-07-xx-S-V-x-TR
pins: 1 TP1+, 2 TP1-, 3 Hz1-, 4 Hz2-, 5 TP2-, 6 TP2+, 7 Hz+

## SDI2415
designator V?
footprint DIP16
pins: 1 In-, 8 OutAC, 10 OutAC, 16 In+

## SFM-105-02-S-D-A
designator X?
footprint SFM-105-02-S-D-A
pins: 1, 2, 3, 4, 5, 6, 7, 8, 9, 10

## SG-310
designator *
footprint SG-310
pins: 1 ~{ST}, 2 GND, 3 OUT, 4 Vcc

## SHUNT
designator R?
footprint SMR
pins: 1, 2

## SMD050F-2
designator F?, comment 1A  (value not drawn)
footprint 1206 (Chip Resistor; Body 3.1 x 1.6 mm (LxW typ))
pins: 1, 2

## SMS-112-01-X-S
designator *
footprint Samtec SMS-112-01-X-S
pins: 1 nc, 2 TP1+, 3 TP1-, 4 D1+, 5 D1-, 6 Hz1-, 7 Hz2-, 8 D2-, 9 D2+, 10 TP2-, 11 TP2+, 12 Hz+

## SN74LVC1G17
designator V?
footprint SOT23-5
pins: 2 A, 3 GND, 4 Y, 5 VCC

## STM809
designator V?
footprint SOT23
pins: 1 VSS, 2 ~{RST}, 3 VCC

## SUB D 9 PCB Stift
designator X?, comment SUBD 9 Stift
TE Connectivity 1-338168-2  Farnell 3417116
footprint SUB-D 9 PCB Stift
pins: 1, 2, 3, 4, 5, 6, 7, 8, 9, 10, 11

## TC77
designator V?
footprint SOT23-5
pins: 1 /C/S, 2 GND, 3 SCK, 4 SIO, 5 VDD

## Testpad
designator *
footprint Testpoint
pins: 1

## Testpin
designator XP?, comment Test
footprint Testpin
pins: 1

## TFM-105-01-S-D-RA
designator X?
footprint TFM-105-01-S-D-RA
pins: 1, 2, 3, 4, 5, 6, 7, 8, 9, 10

## TL082
designator V?
footprint SO8
part A pins: 1, 2, 3, 4, 8
part B pins: 5, 6, 7

## TLV2450
designator V?
footprint SOT23-5
pins: 1 Out, 2 GND, 3 In1+, 4 In1-, 5 Vdd+

## TMH2WATT
designator V?
footprint SIP5
pins: 1 +Vin, 2 -Vin, 4 -Vout, 5 Common, 6 +Vout

## TPS76030
designator V?  (value not drawn)
footprint SOT23-5
pins: 1 IN, 2 GND, 3 EN, 4 NC hidden, 5 OUT

## TRAFO
designator TR?, comment B78334-B1033-A3
footprint Trafo
pins: 1, 2, 3 NC, 4, 5, 6, 7, 8 NC, 9, 10

## USB B
designator *
footprint USB2.5-2H4F (Connector; USB1.1, Type B, Thru-Hole; 4 Position; Right Angle)
pins: 1, 2, 3, 4, 5 GND, 6 GND

## USB B_Mini_SMD
designator X?, comment USB_B_Mini
footprint Mini USB B
pins: 1, 2, 3, 4, 5, 6, 7, 8, 9

## USB B_SMT
designator *
footprint USB-B-SMT
pins: 1, 2, 3, 4, 5 GND, 6 GND, 7 GND, 8 GND

## USB Micro AB
designator X?  Supplier Part Number 1: 1568023
Micro USB AB, MOLEX-47589-0001, BOTTOM MOUNT; Supplier 1: Farnell
footprint USB Micro AB REC (MOLEX-47589, MICRO USB AB, bottom mount)
pins: 1 VBUS (power) "Power", 2 D- "-DATA", 3 D+ "+DATA", 4 ID "Ground", 5 GND (power) "Ground", GND1 SHLD "Shield", GND2 SHLD "Shield", GND3 SHLD "Shield", GND4 SHLD "Shield", GND5 SHLD "Shield", GND6 SHLD "Shield"

## Varistor
designator R?  (value not drawn)
footprint 1206
footprint RM5
footprint 0603 (Chip Resistor; Body 1.6 x 0.9 mm (LxW typ))
pins: 1, 2

## WAGO 256 2x
designator X?, comment WAGO256
footprint WAGO 256 2*
pins: 1, 2, 3, 4

## WE-CNSW
designator L?, comment WE-CSNW
footprint WE-CNSW
pins: 1 ., 2, 3, 4

## WE-TVS 2K 3,3V 23_6L
designator V?, comment TVS3,3
footprint SOT23-6
pins: 1 I1, 2 GND, 3 I2, 4 O2, 5 VDD, 6 O1

## WE-TVS 2K 3,3V 143L
designator V?, comment TVS3,3
footprint SOT143-4L
pins: 1 GND, 2 I/O1, 3 I/O2, 4 VDD

## Widerstand SMD
designator R?, comment 10k
footprint 0402 (Chip Resistor; Body 1 x 0.5 mm (LxW typ))
footprint 0603 (Chip Resistor; Body 1.6 x 0.9 mm (LxW typ))
footprint 0805 (Chip Resistor; Body 2 x 1.2 mm (LxW typ))
footprint 1206 (Chip Resistor; Body 3.1 x 1.6 mm (LxW typ))
pins: 1, 2

## XP_IM2Watt
designator V?
footprint SIP7
pins: 1 -Vin, 2 +Vin, 3 OnOff, 6 +Vout, 7 Com, 8 NC, 9 -Vout

## Zenerdiode
designator V?
footprint SOD110; pin to pad 1>A 2>K
footprint SOD123; pin to pad 1>A 2>K
footprint DO214; pin to pad 1>A 2>K
footprint SOT23; pin to pad 1>2 2>1
pins: 1, 2

## ZHCS500
designator V?  (value not drawn)
footprint SOT23
pins: 1, 2 hidden, 3

## ZIF 10 IDC 10
designator X?
footprint Flachband 10polig
footprint Flachband 10polig
footprint FTSH-105-01-DV
pins: 1, 2, 3, 4, 5, 6, 7, 8, 9, 10

## ZIF-6U
designator *
footprint ZIF -6u 1mm
pins: 1, 2, 3, 4, 5, 6

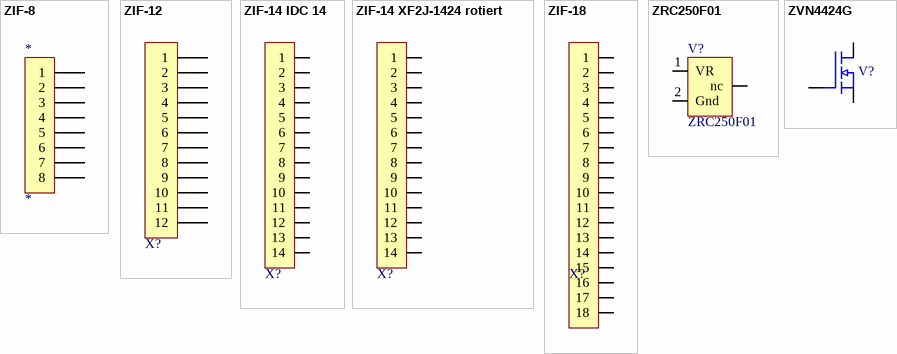
[diagram p5: symbols ZIF-8 to ZVN4424G]

## ZIF-8
designator *
footprint ZIF-8
footprint ZIF-8 S
pins: 1, 2, 3, 4, 5, 6, 7, 8

## ZIF-12
designator X?, comment ZIF 12  (value not drawn)
footprint ZIF -12
footprint Stift 1_27 x 12
pins: 1, 2, 3, 4, 5, 6, 7, 8, 9, 10, 11, 12

## ZIF-14 IDC 14
designator X?, comment ZIF 14 & IDC 2*7  (value not drawn)
footprint Flachband 14*1.27
footprint Flachband 14*2.54
footprint ZIF -14
footprint FTSH-107-01-DV
pins: 1, 2, 3, 4, 5, 6, 7, 8, 9, 10, 11, 12, 13, 14

## ZIF-14 XF2J-1424 rotiert
designator X?, comment XF2J-1424 rotiert  (value not drawn)
footprint XF2J_1424_11A_rot
pins: 1, 2, 3, 4, 5, 6, 7, 8, 9, 10, 11, 12, 13, 14

## ZIF-18
designator X?, comment ZIF 18  (value not drawn)
footprint ZIF -18
pins: 1, 2, 3, 4, 5, 6, 7, 8, 9, 10, 11, 12, 13, 14, 15, 16, 17, 18

## ZRC250F01
designator V?
footprint SOT23
pins: 1 VR, 2 Gnd, 3 nc

## ZVN4424G
designator V?  (value not drawn)
footprint SOT223
pins: 1 G, 2 D, 3 S